# Altium footprint library SOD-882.PcbLib: 1 footprints
Each footprint in its own frame and in the unit in brackets; x right, y up, seen from the top. Pads: shape width x height; smd on the part's side, far side on the other; paste and mask are expansions set on the pad; w line width, h text height; cw(c..) or ccw(c..) is an arc to the next point about the centre after c.
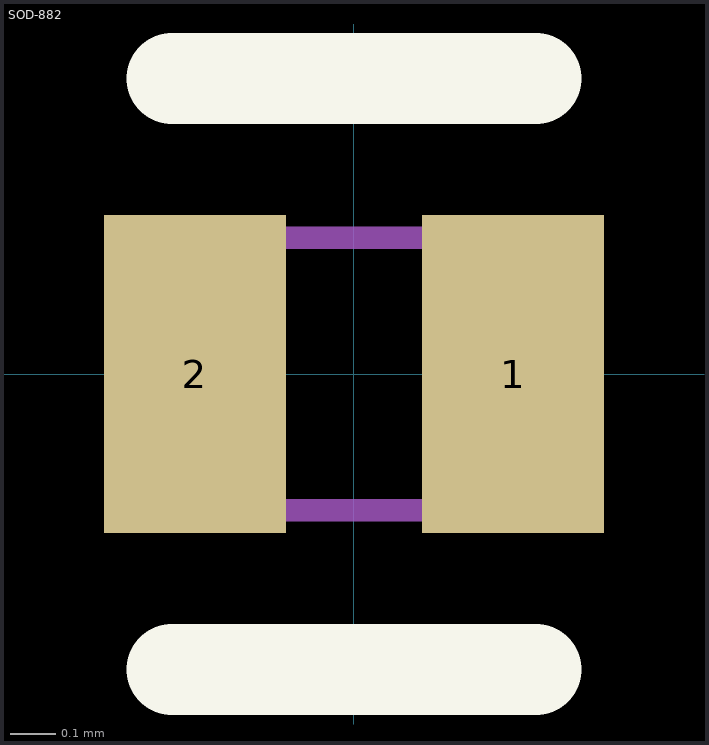
[diagram p0: the footprint, top view; thin cyan lines are the x and y axes]

## SOD-882 [mm]
pads (2):
  rect 0.4x0.7 smd mask+0.051: 1(0.35,0) 2(-0.35,0)
Top Overlay:
  lines w0.2: -0.4,-0.65 0.4,-0.65 ; -0.4,0.65 0.4,0.65
Mechanical 13:
  lines w0.05: -0.5,-0.3 0.5,-0.3 0.5,0.3 -0.5,0.3 -0.5,-0.3